# Altium footprint library INFN-SC79.PcbLib: 1 footprints
Each footprint in its own frame and in the unit in brackets; x right, y up, seen from the top. Pads: shape width x height; smd on the part's side, far side on the other; paste and mask are expansions set on the pad; w line width, h text height; cw(c..) or ccw(c..) is an arc to the next point about the centre after c.
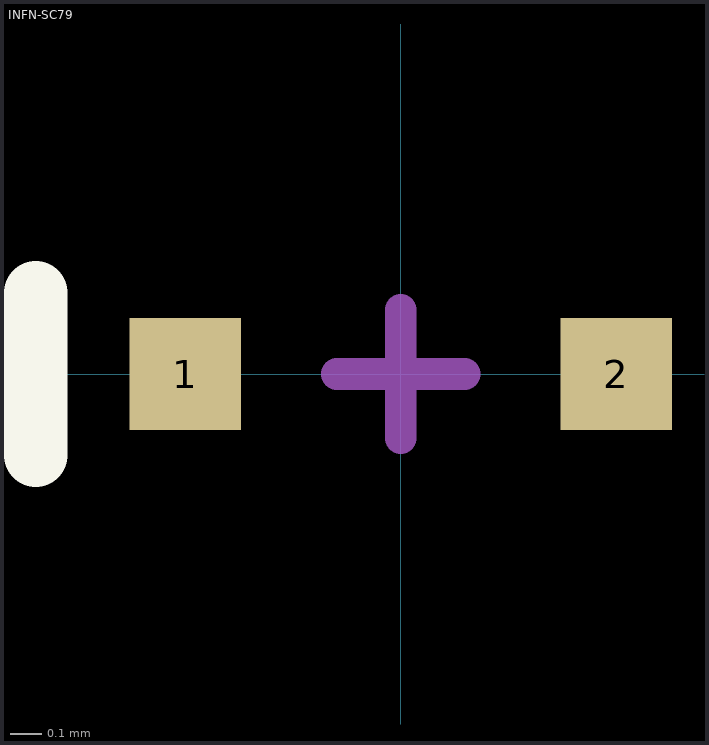
[diagram p0: the footprint, top view; thin cyan lines are the x and y axes]

## INFN-SC79 [mm] "SC79, 2-Leads, Body 1.6x0.8mm"
height 0.55
pads (2):
  rect 0.35x0.35 smd: 1(-0.675,0) 2(0.675,0)
Top Overlay:
  lines w0.2: -1.143,-0.254 -1.143,0.254
Mechanical 15:
  lines w0.1: -0.2,0 0.2,0 ; 0,-0.2 0,0.2
3D body: height 0.7, standoff 0, extent -0.8,-0.417 0.8,0.381